# EAGLE library part TPS54286 (library omc-archive)
TPS54286 Switching Regulator from TI. 2 Outputs, 600kHz, 2A Iout Datasheet <http://focus.ti.com/lit/ds/symlink/tps54286.pdf>
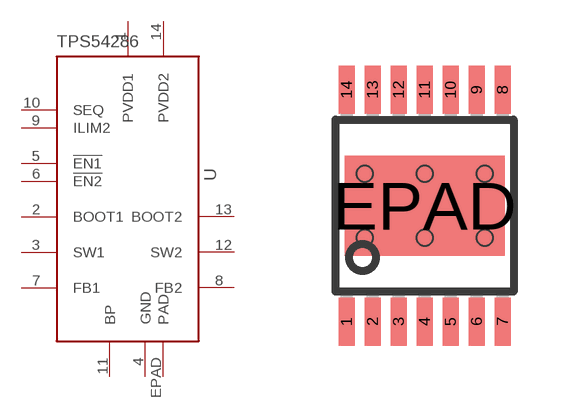
[diagram p4: symbol with the pads of PW_R-PDSO-G14; footprint PW_R-PDSO-G14]

Designator prefix U

## TPS54286  [PW_R-PDSO-G14]
1  PVDD1  pwr
2  BOOT1  in
3  SW1  out
4  GND  pwr
5  !EN1  in
6  !EN2  in
7  FB1  in
8  FB2  in
9  ILIM2  in
10  SEQ  in
11  BP  pas
12  SW2  out
13  BOOT2  in
14  PVDD2  pwr
EPAD  PAD  pwr

## Footprint PW_R-PDSO-G14 (pad centres in mm)
PLASTIC SMALL-OUTLINE PACKAGE SO 14 JEDEC MO-153, PW Type Source: www.ti.com/.. slvs087l.pdf
smd 0.4 x 1.2: 1 -1.95,-2.9; 2 -1.3,-2.9; 3 -0.65,-2.9; 4 0,-2.9; 5 0.65,-2.9; 6 1.3,-2.9; 7 1.95,-2.9; 8 1.95,2.9; 9 1.3,2.9; 10 0.65,2.9; 11 0,2.9; 12 -0.65,2.9; 13 -1.3,2.9; 14 -1.95,2.9
smd 4 x 2.5: EPAD 0,0
hole 0.4 at -1.5,0.8
hole 0.4 at -1.5,-0.8
hole 0.4 at 1.5,0.8
hole 0.4 at 1.5,-0.8
hole 0.4 at 0,0.8
hole 0.4 at 0,-0.8